# EAGLE library part 505110-0492 (library SamacSys_Parts)
Easy-On FFC/FPC Connector, 0.50mm Pitch, FD19 Series, Right-Angle, Bottom Contact, 1.90mm Height, Circuits, Gold over Nickel Plating Source: Datasheet <https://www.molex.com/pdm_docs/sd/5051100592_sd.pdf>
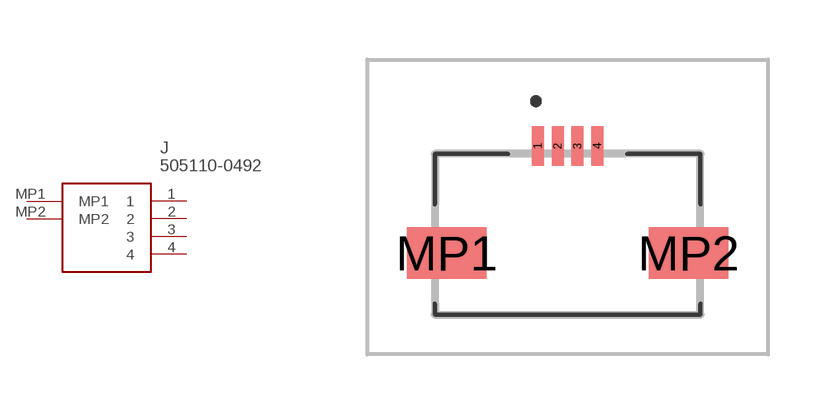
[diagram p30: symbol with the pads of 5051100492; footprint 5051100492]

Designator prefix J

## 505110-0492 (DESCRIPTION: Easy-On FFC/FPC Connector, 0.50mm Pitch, FD19 Series, Right-Angle, Bottom Contact, 1.90mm Height, Circuits, Gold over Nickel Plating; HEIGHT: 3.95mm; MANUFACTURER_NAME: Molex; MANUFACTURER_PART_NUMBER: 505110-0492; MOUSER_PART_NUMBER: 538-505110-0492; MOUSER_PRICE-STOCK: https://www.mouser.co.uk/ProductDetail/Molex/505110-0492?qs=RawsiUxJOFQzykwKvzl6%2Fw%3D%3D)  [5051100492]
1  1
2  2
3  3
4  4
MP1  MP1
MP2  MP2

## Footprint 5051100492 (pad centres in mm)
505110-0492-1
smd 0.3 x 1: 1 -0.75,2.225; 2 -0.25,2.225; 3 0.25,2.225; 4 0.75,2.225
smd 2 x 1.3: MP1 -3.05,-0.475; MP2 3.05,-0.475